# Altium footprint library 201267-0005.PcbLib: 1 footprints
Each footprint in its own frame and in the unit in brackets; x right, y up, seen from the top. Pads: shape width x height; smd on the part's side, far side on the other; paste and mask are expansions set on the pad; w line width, h text height; cw(c..) or ccw(c..) is an arc to the next point about the centre after c.
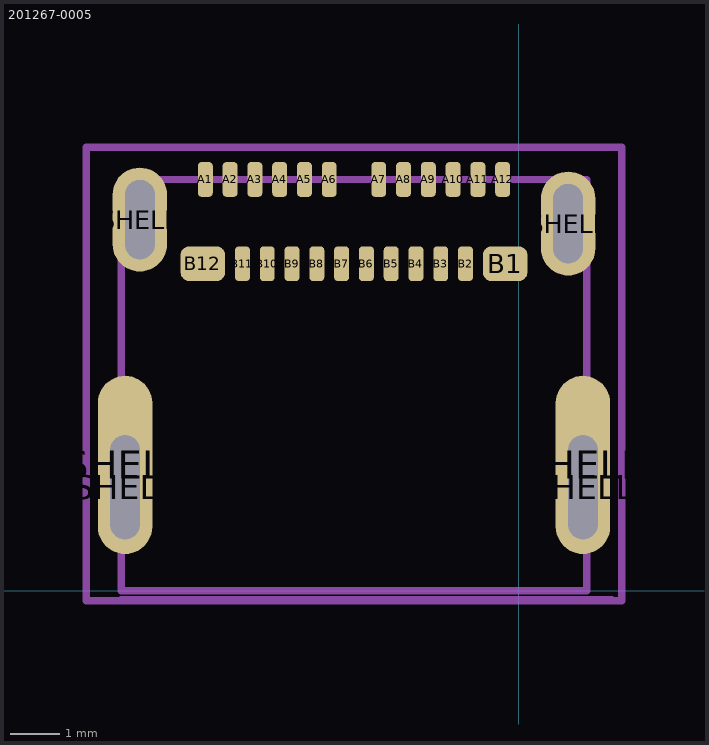
[diagram p0: the footprint, top view; thin cyan lines are the x and y axes]

## 201267-0005 [mm] "USB 3.1 C Right Angle"
height 3
pads (30):
  rrect50% 0.3x0.7 smd mask+0.07: A1(-6.325,8.3) A2(-5.825,8.3) A3(-5.325,8.3) A4(-4.825,8.3) A5(-4.325,8.3) A6(-3.825,8.3) A7(-2.825,8.3) A8(-2.325,8.3) A9(-1.825,8.3) A10(-1.325,8.3) A11(-0.825,8.3) A12(-0.325,8.3) B2(-1.075,6.6) B3(-1.575,6.6) B4(-2.075,6.6) B5(-2.575,6.6) B6(-3.075,6.6) B7(-3.575,6.6) B8(-4.075,6.6) B9(-4.575,6.6) B10(-5.075,6.6) B11(-5.575,6.6)
  rrect50% 0.9x0.7 smd mask+0.07: B1(-0.275,6.6) B12(-6.375,6.6)
  oval 1.1x2.7 hole 0.6 slot 2.1 at 90 deg mask+0.07: SHELL(-7.945,2.09) SHELL(1.295,2.09)
  oval 1.1x3.6 all layers, no hole mask+0.07: SHELL(-7.945,2.54) SHELL(1.295,2.54)
  oval 1.1x2.1 hole 0.6 slot 1.6 at 90 deg mask+0.07: SHELL(-7.645,7.49) SHELL(0.995,7.41)
Mechanical 1:
  lines w0.15: -8.025,-0.18 1.875,-0.18
Mechanical 2:
  lines w0.15: -8.025,0 -8.025,6 -8.025,8.3 1.375,8.3 1.375,0 -8.025,0
Mechanical 4:
  lines w0.15: -8.725,-0.2 2.075,-0.2 2.075,8.95 1.8,8.95 -8.725,8.95 -8.725,-0.2
3D body "2012670005.stp": height 3.71, standoff -2.3, extent -8.02,0 1.37,8.3